# EAGLE library part OPA2333 (library Parts for D-DAQ)
Dual Op Amp
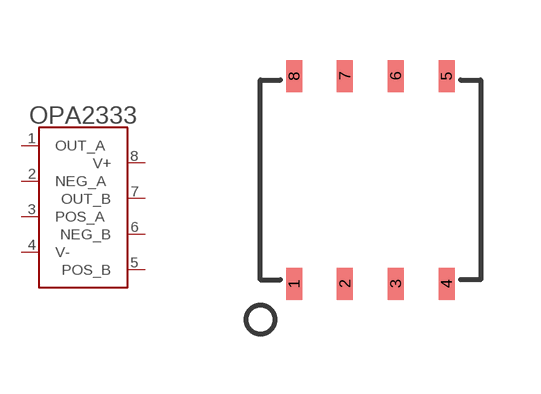
[diagram p1: symbol with the pads of SO-8; footprint SO-8]

Designator prefix -

## OPA2333  [SO-8]
1  OUT_A  out
2  NEG_A  in
3  POS_A  in
4  V-  pwr
5  POS_B  in
6  NEG_B  in
7  OUT_B  out
8  V+  pwr

## Footprint SO-8 (pad centres in mm)
smd 0.4 x 0.8: 1 -1.91,-2.6; 2 -0.64,-2.6; 3 0.63,-2.6; 4 1.9,-2.6; 5 1.9,2.6; 6 0.63,2.6; 7 -0.64,2.6; 8 -1.91,2.6